# Altium footprint library charger.PcbLib: 6 footprints
Each footprint in its own frame and in the unit in brackets; x right, y up, seen from the top. Pads: shape width x height; smd on the part's side, far side on the other; paste and mask are expansions set on the pad; w line width, h text height; cw(c..) or ccw(c..) is an arc to the next point about the centre after c.
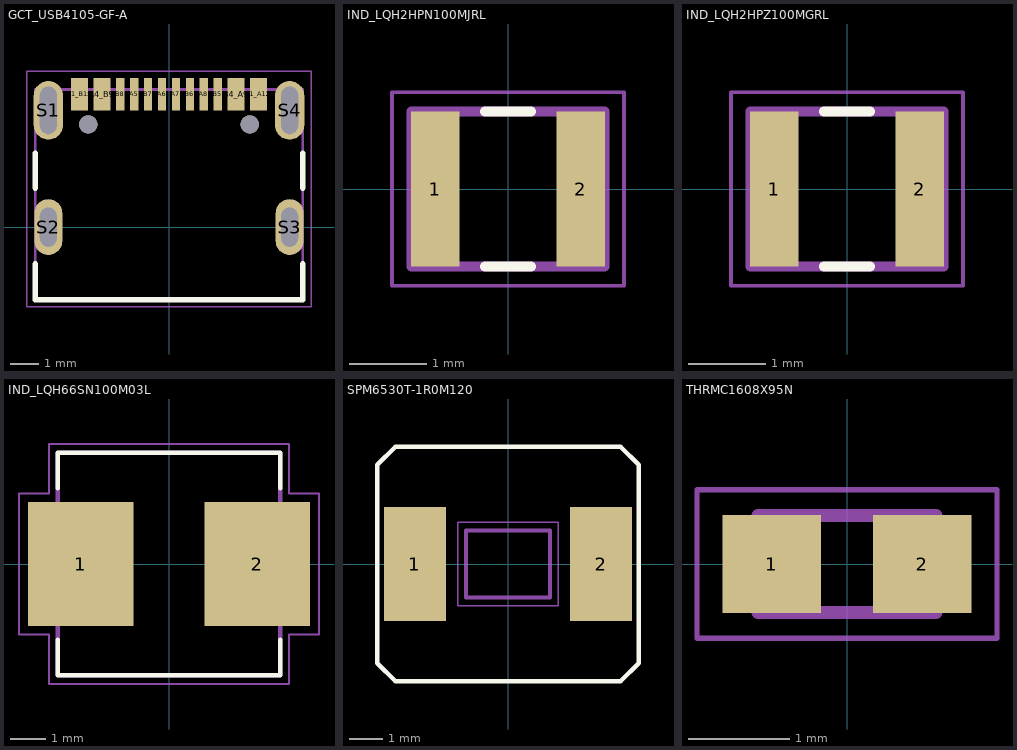
[diagram p0: the footprints below, top view; thin cyan lines are the x and y axes]

## GCT_USB4105-GF-A [mm]
pads (18):
  rect 0.6x1.15 smd: A1_B12(-3.2,4.755) A4_B9(-2.4,4.755) B1_A12(3.2,4.755) B4_A9(2.4,4.755)
  rect 0.3x1.15 smd: A5(-1.25,4.755) A6(-0.25,4.755) A7(0.25,4.755) A8(1.25,4.755) B5(1.75,4.755) B6(0.75,4.755) B7(-0.75,4.755) B8(-1.75,4.755)
  oval 1.05x2.1 hole 0.6 slot 1.7 at 90 deg: S1(-4.32,4.18) S4(4.32,4.18)
  oval 1x2 hole 0.6 slot 1.4 at 90 deg: S2(-4.32,0) S3(4.32,0)
  round 0.65 hole 0.65 unplated: ""(-2.89,3.68) ""(2.89,3.68)
Top Overlay:
  lines w0.2: -4.79,-1.32 -4.79,-2.6 4.79,-2.6 4.79,-1.32 ; -4.79,1.4 -4.79,2.65 ; 4.79,1.4 4.79,2.65
Mechanical 13:
  lines w0.1: -4.79,-2.6 -4.79,4.93 4.79,4.93 4.79,-2.6 -4.79,-2.6
Mechanical 15:
  lines w0.05: -5.1,-2.85 5.1,-2.85 5.1,5.58 -5.1,5.58 -5.1,-2.85
3D body "step_temp.STEP": height 3.31, standoff -0.85, extent -4.79,-2.712 4.79,4.998

## IND_LQH2HPN100MJRL [mm]
pads (2):
  rect 0.625x2 smd: 1(-0.937,0) 2(0.937,0)
Top Overlay:
  lines w0.127: -0.3,-1 0.3,-1 ; -0.3,1 0.3,1
Mechanical 13:
  lines w0.127: -1.25,-1 1.25,-1 1.25,1 -1.25,1 -1.25,-1
Mechanical 15:
  lines w0.05: -1.5,-1.25 1.5,-1.25 1.5,1.25 -1.5,1.25 -1.5,-1.25
3D body "LQH2HPN100MJRL--3DModel-STEP-46669.STEP": height 1.2, standoff 0, extent -1.25,-1 1.25,1

## IND_LQH2HPZ100MGRL [mm]
pads (2):
  rect 0.625x2 smd: 1(-0.937,0) 2(0.937,0)
Top Overlay:
  lines w0.127: -0.3,-1 0.3,-1 ; -0.3,1 0.3,1
Mechanical 13:
  lines w0.127: -1.25,-1 -1.25,1 1.25,1 1.25,-1 -1.25,-1
Mechanical 15:
  lines w0.05: -1.5,-1.25 -1.5,1.25 1.5,1.25 1.5,-1.25 -1.5,-1.25
3D body "LQH2HPZ100MGRL.STEP": height 1, standoff 0, extent -1.25,-1 1.25,1

## IND_LQH66SN100M03L [mm]
pads (2):
  rect 3x3.5 smd: 1(-2.5,0) 2(2.5,0)
Top Overlay:
  lines w0.127: -3.15,-2.15 -3.15,-3.15 3.15,-3.15 3.15,-2.15 ; -3.15,2.15 -3.15,3.15 3.15,3.15 3.15,2.15
Mechanical 13:
  lines w0.127: -3.15,-3.15 3.15,-3.15 3.15,3.15 -3.15,3.15 -3.15,-3.15
Mechanical 15:
  lines w0.05: -4.25,-2 -4.25,2 -3.4,2 -3.4,3.4 3.4,3.4 3.4,2 4.25,2 4.25,-2 3.4,-2 3.4,-3.4 -3.4,-3.4 -3.4,-2 -4.25,-2
3D body "step_temp.STEP": height 5, standoff 0, extent -3.15,-3.15 3.15,3.15

## SPM6530T-1R0M120 [mm]
pads (2):
  rect 1.85x3.4 smd: 1(-2.775,0) 2(2.775,0)
Top Overlay:
  lines w0.127: -3.9,-2.96 -3.36,-3.5 3.36,-3.5 3.9,-2.96 3.9,2.96 3.36,3.5 -3.36,3.5 -3.9,2.96 -3.9,-2.96
Mechanical 13:
  lines w0.127: -1.25,-1 1.25,-1 1.25,1 -1.25,1 -1.25,-1
Mechanical 15:
  lines w0.05: -1.5,-1.25 1.5,-1.25 1.5,1.25 -1.5,1.25 -1.5,-1.25
3D body "spm6530.step": height 3, standoff -0.15, extent -3.55,-3.25 3.55,3.25

## THRMC1608X95N [mm]
pads (2):
  rect 0.98x0.97 smd: 1(-0.745,0) 2(0.745,0)
Mechanical 13:
  lines w0.127: -0.88,-0.48 0.88,-0.48 0.88,0.48 -0.88,0.48 -0.88,-0.48
Mechanical 15:
  lines w0.05: -1.485,-0.735 1.485,-0.735 1.485,0.735 -1.485,0.735 -1.485,-0.735
3D body "PRF18AR471QB5RB.STEP": height 0.4, standoff -0.4, extent -0.809,-0.473 0.791,0.477